# Altium schematic symbol library T1.SchLib: 1 symbol
Pins are listed as number, name and electrical type; pins without a type are passive.

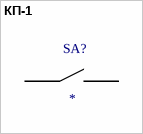
[diagram p0: symbol КП-1]

## КП-1
designator SA?
footprint КП-1
pins: 1, 2